# Altium footprint library OTHER.PCBLIB: 126 footprints (part 3 of 8)
Each footprint in its own frame and in the unit in brackets; x right, y up, seen from the top. Pads: shape width x height; smd on the part's side, far side on the other; paste and mask are expansions set on the pad; w line width, h text height; cw(c..) or ccw(c..) is an arc to the next point about the centre after c.
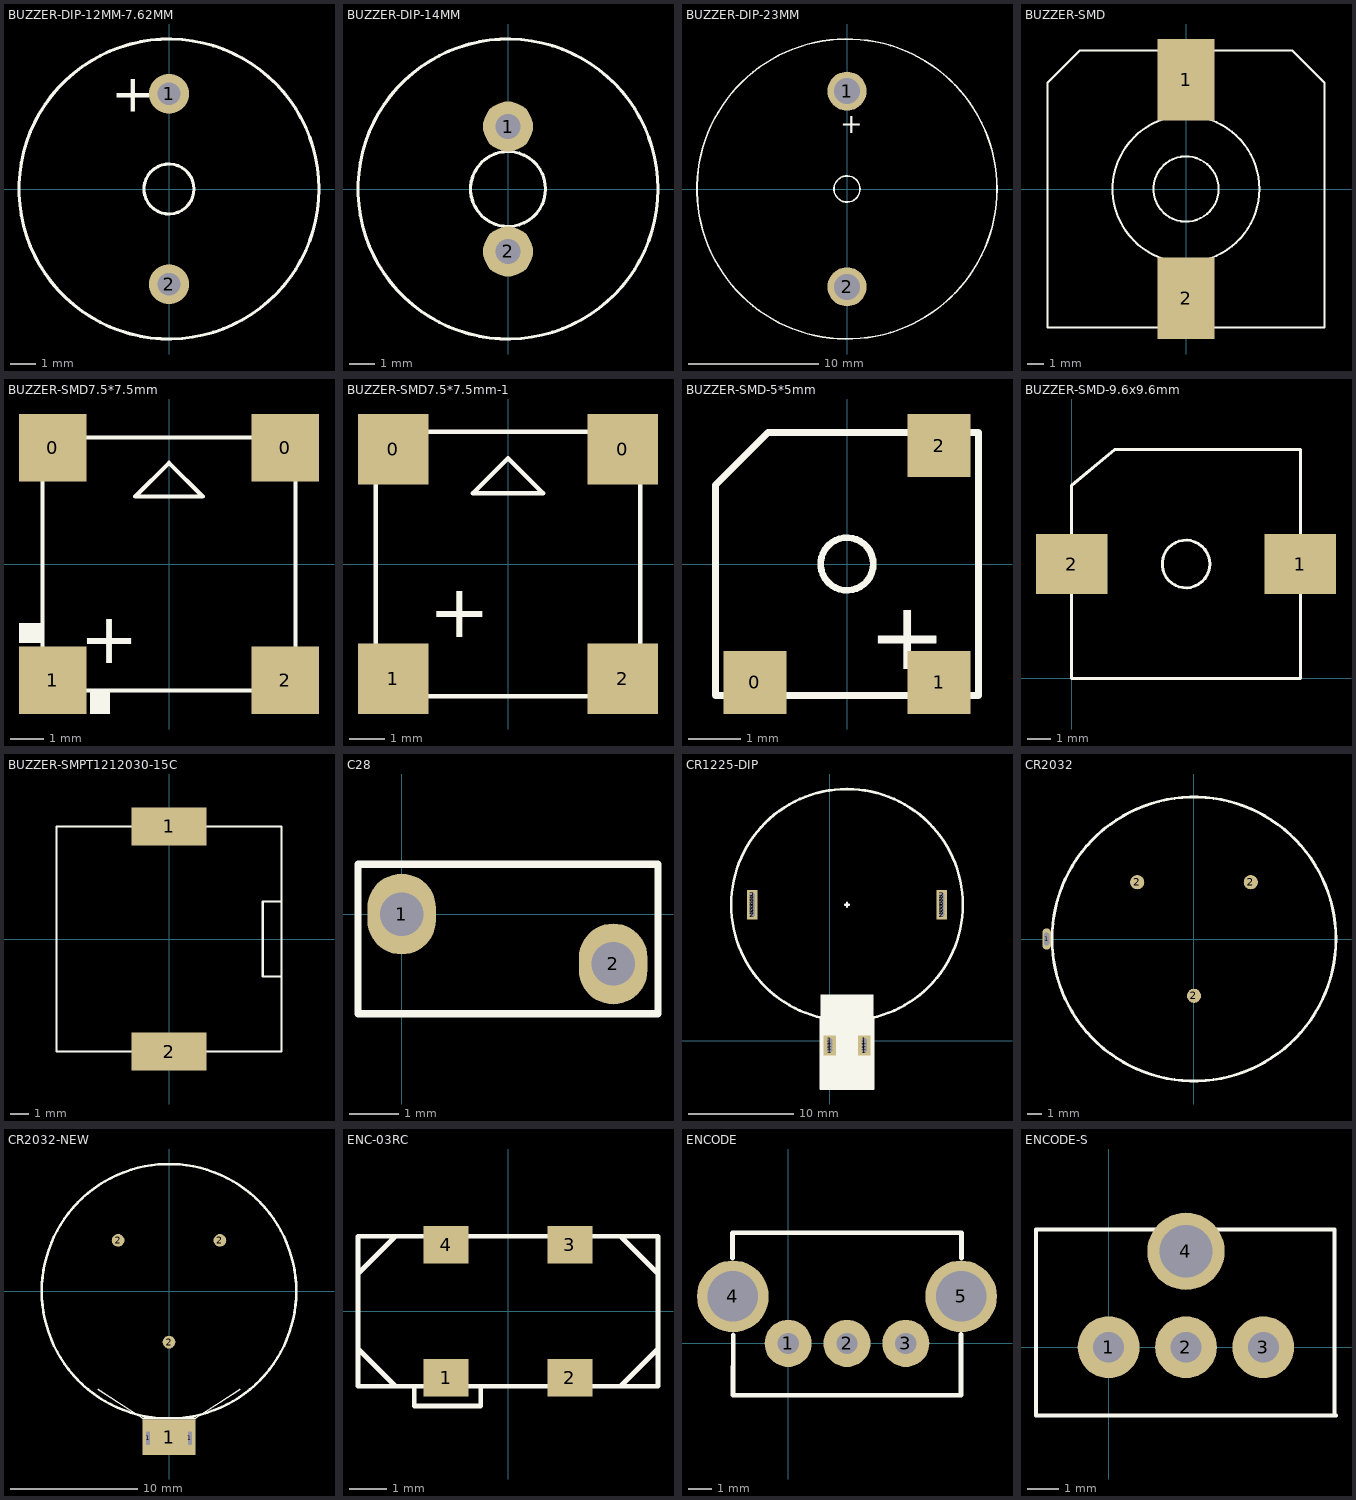
[diagram p2: the footprints below, top view; thin cyan lines are the x and y axes]

## BUZZER-DIP-12MM-7.62MM [mm]
pads (2):
  round 1.6 hole 0.9: 1(0,3.81) 2(0,-3.81)
TopOverlay:
  circle w0.127: c0,0 r6
  circle w0.127: c0,0 r1
  text "+" at -2.3,3.1 h1.52

## BUZZER-DIP-14MM [mm]
pads (2):
  round 2 hole 1: 1(0,2.5) 2(0,-2.5)
TopOverlay:
  circle w0.127: c0,0 r1.5
  circle w0.127: c0,0 r6

## BUZZER-DIP-23MM [mm]
pads (2):
  round 3 hole 2: 1(0,7.5) 2(0,-7.5)
TopOverlay:
  circle w0.127: c0,0 r11.5
  circle w0.127: c0,0 r1
  text "+" at -0.5,4.275 h1.52

## BUZZER-SMD [mm]
pads (2):
  rect 3.5x5 smd: 1(0,6.7) 2(0,-6.7)
TopOverlay:
  circle w0.127: c0,0 r4.5
  circle w0.127: c0,0 r2
  lines w0.127: -8.5,-8.5 8.5,-8.5 8.5,6.5 6.5,8.5 -6.5,8.5 -8.5,6.5 -8.5,-8.5

## BUZZER-SMD7.5*7.5mm [mm] "BUZZER-SMD7.5*7.5mm"
pads (4):
  rect 2x2 smd: 0(-3.45,3.45) 0(3.45,3.45) 1(-3.45,-3.45) 2(3.45,-3.45)
TopOverlay:
  rectangle: -4.45,-2.35 -3.75,-1.75
  rectangle: -2.35,-4.45 -1.75,-3.75
  lines w0.127: 1,2 -1,2 0,3 1,2 ; 1,2 1,2 ; -3.75,-3.75 3.75,-3.75 3.75,3.75 -3.75,3.75 -3.75,-3.75
  text "+" at -2.65,-2.95 h1.52

## BUZZER-SMD7.5*7.5mm-1 [mm] "BUZZER-SMD7.5*7.5mm-1"
pads (4):
  rect 2x2 smd: 0(-3.25,3.25) 0(3.25,3.25) 1(-3.25,-3.25) 2(3.25,-3.25)
TopOverlay:
  lines w0.127: 1,2 -1,2 0,3 1,2 ; 1,2 1,2 ; -3.75,-3.75 3.75,-3.75 3.75,3.75 -2.75,3.75 -3.75,2.75 -3.75,-3.75
  text "+" at -2.25,-2.075 h1.52

## BUZZER-SMD-5*5mm [mm] "BUZZER-SMD-5*5mm"
pads (3):
  rect 1.2x1.2 smd: 0(-1.75,-2.25) 1(1.75,-2.25) 2(1.75,2.25)
TopOverlay:
  circle w0.127: c0,0 r0.5
  lines w0.127: -2.5,-2.5 2.5,-2.5 2.5,2.5 -1.5,2.5 -2.5,1.5 -2.5,-2.5
  text "+" at 0.4,-2 h1.3

## BUZZER-SMD-9.6x9.6mm [mm] "BUZZER-SMD-9.6x9.6mm"
pads (2):
  rect 3x2.5 smd: 1(9.6,4.8) 2(0,4.8)
TopOverlay:
  circle w0.127: c4.8,4.8 r1
  lines w0.127: 0,0 0,8.1 1.8,9.6 9.6,9.6 9.6,0 0,0

## BUZZER-SMPT1212030-15C [mm]
pads (2):
  rect 4x2 smd: 1(0,6) 2(0,-6)
TopOverlay:
  lines w0.127: 6,-2 5,-2 5,2 6,2 ; -6,-6 6,-6 6,6 -6,6 -6,-6

## C28 [mm]
pads (2):
  oval 1.4x1.65 hole 0.889: 1(0,0) 2(4.318,-1.016)
TopOverlay:
  lines w0.152: -0.889,-2.032 5.232,-2.032 5.232,1.016 -0.889,1.016 -0.889,-2.032

## CR1225-DIP [mm] "CR1225-DIP"
pads (22):
  rect 1.2x1 hole 0.5: 1(0,0) 1(0,-0.9) 1(0,-0.6) 1(0,-0.3) 1(3.3,-0.9) 1(3.3,-0.6) 1(3.3,-0.3) 1(3.3,0)
  rect 1x1 hole 0.5: 2(-7.35,12) 2(-7.35,12.3) 2(-7.35,12.6) 2(-7.35,12.9) 2(-7.35,13.2) 2(-7.35,13.5) 2(-7.35,13.8) 2(10.65,12) 2(10.65,12.3) 2(10.65,12.6) 2(10.65,12.9) 2(10.65,13.2) 2(10.65,13.5) 2(10.65,13.8)
TopOverlay:
  circle w0.254: c1.65,12.9 r11
  rectangle: -0.85,-4.6 4.15,4.4
  lines w0.2: -0.85,2.2 -0.85,-4.6 4.15,-4.6 4.15,2.2 ; 1.45,12.9 1.85,12.9 ; 1.65,12.7 1.65,13.1

## CR2032 [mm] "CR2032"
pads (4):
  oval 0.6x1.5 hole 0.35 slot 0.9 at 90 deg: 1(-10.375,0)
  round 1 smd: 2(-4,4) 2(0,-4) 2(4,4)
TopOverlay:
  circle w0.2: c0,0 r10

## CR2032-NEW [mm] "CR2032-NEW"
pads (6):
  oval 0.6x1.2 hole 0.3 slot 1.05 at 90 deg: 1(-1.65,-11.55) 1(1.65,-11.55)
  rect 4.2x2.8 smd: 1(0,-11.475)
  round 1 smd: 2(-4,4) 2(0,-4) 2(4,4)
TopOverlay:
  circle w0.2: c0,0 r10
  lines w0.127: -5.55,-7.725 -2.045,-10 2.045,-10 5.55,-7.725

## ENC-03RC [mm]
pads (4):
  rect 1.2x1 smd: 1(-1.65,-1.775) 2(1.65,-1.775) 3(1.65,1.775) 4(-1.65,1.775)
TopOverlay:
  lines w0.127: -4,-1 -3,-2 ; -4,1 -3,2 ; -2.5,-2 -2.5,-2.525 -0.725,-2.525 -0.725,-2 ; 3,-2 4,-1 ; 3,2 4,1 ; -4,-2 4,-2 4,2 -4,2 -4,-2

## ENCODE [mm]
pads (5):
  round 2 hole 0.9: 1(0,0) 2(2.5,0) 3(5,0)
  round 3.048 hole 2.135: 4(-2.35,2) 5(7.35,2)
TopOverlay:
  lines w0.203: -2.362,3.632 -2.362,4.7 ; -2.35,4.7 7.35,4.7 ; -2.337,0.356 -2.35,-2.2 7.35,-2.2 7.341,0.381 ; 7.366,3.632 7.366,4.7

## ENCODE-S [mm]
pads (4):
  round 2 hole 1: 1(0,0) 2(2.5,0) 3(5,0)
  round 2.5 hole 1.7: 4(2.5,3.1)
TopOverlay:
  lines w0.127: -2.35,3.8 -2.35,-2.2 7.35,-2.2 ; 7.3,-2.15 7.3,3.8
  lines w0.128: -2.35,3.8 7.3,3.8